# EAGLE library part 4043 (library ads4)
Quad S-R Latch
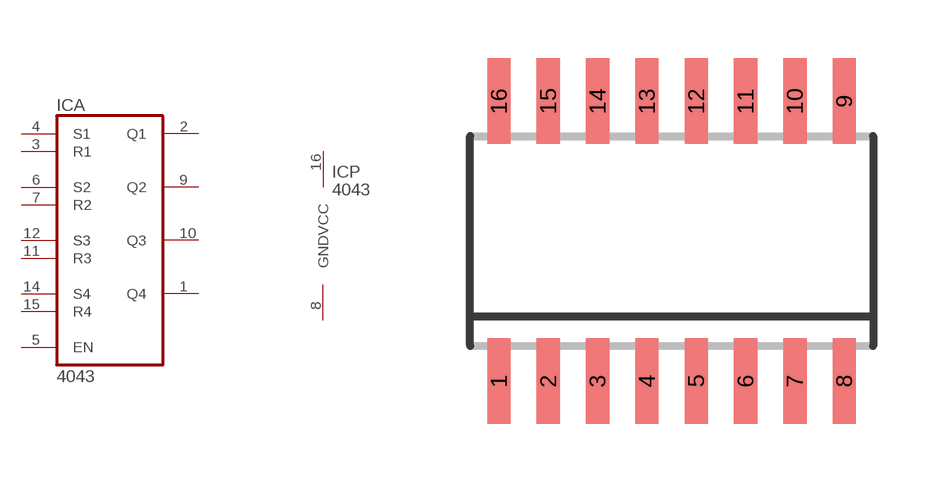
[diagram p107: symbol with the pads of SO16; footprint SO16]

Designator prefix IC; gates A=4043 P=POWER2

## 4043NS  [SO16]
1  A:Q4  out
2  A:Q1  out
3  A:R1  in
4  A:S1  in
5  A:EN  in
6  A:S2  in
7  A:R2  in
8  P:GND  pwr
9  A:Q2  out
10  A:Q3  out
11  A:R3  in
12  A:S3  in
14  A:S4  in
15  A:R4  in
16  P:VCC  pwr

## Footprint SO16 (pad centres in mm)
SO-16 narrow package (5.3mm wide)
smd 0.6 x 2.2: 1 -4.445,-3.6; 2 -3.175,-3.6; 3 -1.905,-3.6; 4 -0.635,-3.6; 5 0.635,-3.6; 6 1.905,-3.6; 7 3.175,-3.6; 8 4.445,-3.6; 9 4.445,3.6; 10 3.175,3.6; 11 1.905,3.6; 12 0.635,3.6; 13 -0.635,3.6; 14 -1.905,3.6; 15 -3.175,3.6; 16 -4.445,3.6